# Altium footprint library My Library.PcbLib: 161 footprints (part 5 of 11)
Each footprint in its own frame and in the unit in brackets; x right, y up, seen from the top. Pads: shape width x height; smd on the part's side, far side on the other; paste and mask are expansions set on the pad; w line width, h text height; cw(c..) or ccw(c..) is an arc to the next point about the centre after c.
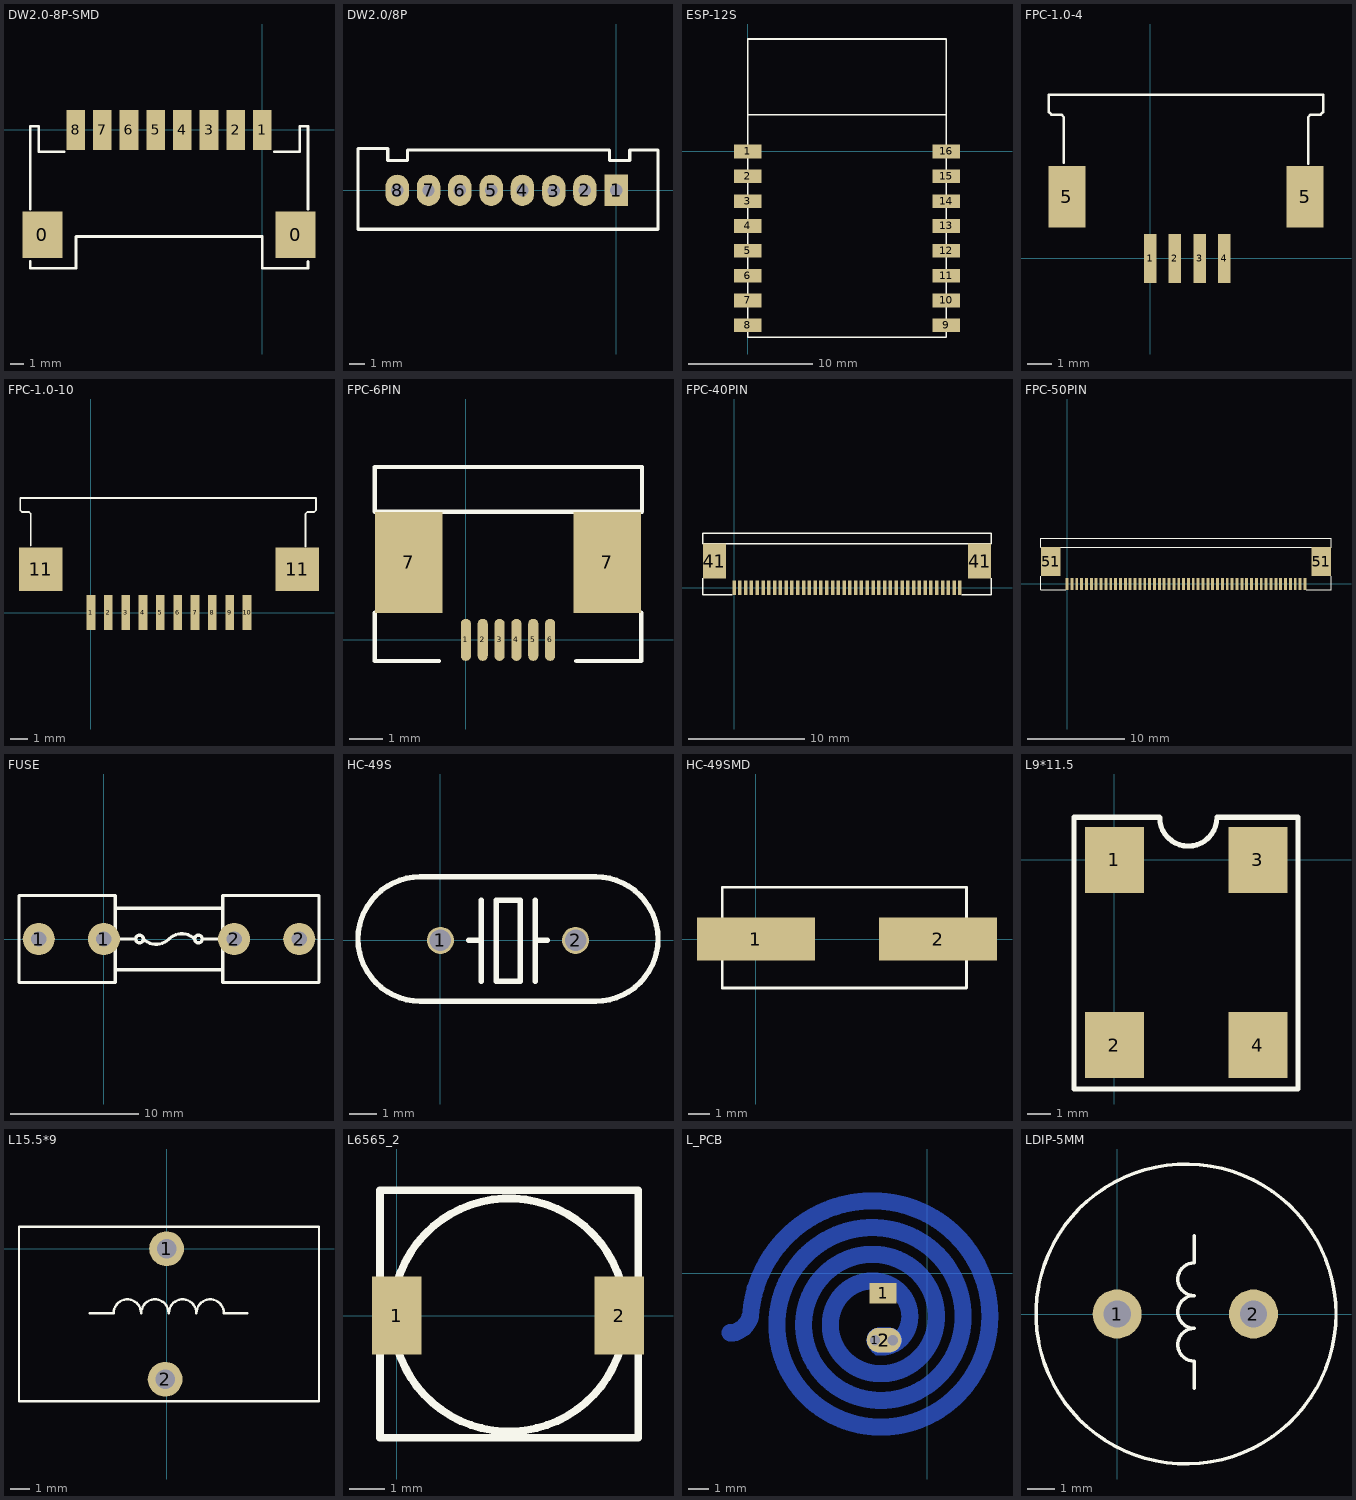
[diagram p4: the footprints below, top view; thin cyan lines are the x and y axes]

## DW2.0-8P-SMD [mm]
height 5
pads (10):
  rect 3x3.5 smd: 0(-16.5,-7.881) 0(2.5,-7.881)
  rect 1.4x3 smd: 1(0,0) 2(-2,0) 3(-4,0) 4(-6,0) 5(-8,0) 6(-10,0) 7(-12,0) 8(-14,0)
Top Overlay:
  lines w0.2: -17.4,-9.881 -17.4,-10.381 -13.971,-10.381 ; -17.399,-5.969 -17.399,-1.651 -17.399,0.254 -16.764,0.254 -16.764,-1.651 -14.859,-1.651 ; -13.97,-10.381 -13.97,-8.001 0,-8.001 0,-10.381 3.429,-10.381 3.429,-9.881 ; 0.889,-1.651 2.794,-1.651 2.794,0.254 3.429,0.254 3.429,-1.651 3.429,-5.969

## DW2.0/8P [mil]
pads (8):
  rect 59x79 hole 31: 1(0,0)
  oval 59x79 hole 31: 2(-79,0) 3(-157,-1) 4(-236.22,0) 5(-314.96,0) 6(-393.7,0) 7(-472.44,0) 8(-551.18,0)
Top Overlay:
  lines w7.87: -650,105 -575,105 -575,75 -525,75 -525,102
  lines w8: -650,-98 -334.22,-98 -257,-98 105,-98 105,102 34,102 34,75 -17,75 -17,102 -139,102 ; -650,-97 -650,105 ; -525,102 -216.35,102 -129.92,102

## ESP-12S [mm]
height 3
pads (16):
  rect 2.2x1.1 smd: 1(0,0) 2(0,-2) 3(0,-4) 4(0,-6) 5(0,-8) 6(0,-10) 7(0,-12) 8(0,-14) 9(16,-14) 10(16,-12) 11(16,-10) 12(16,-8) 13(16,-6) 14(16,-4) 15(16,-2) 16(16,0)
Top Overlay:
  lines w0.127: 0,2.95 16,2.95 ; 3.625,9.05 3.65,9.05 ; 0,-14.95 16,-14.95 16,9.05 0,9.05 0,-14.95

## FPC-1.0-4 [mm]
height 1
pads (6):
  rect 0.5x2 smd: 1(0,0) 2(1,0) 3(2,0) 4(3,0)
  rect 1.5x2.5 smd: 5(-3.375,2.5) 5(6.275,2.5)
Top Overlay:
  lines w0.1: -3.725,6.625 7,6.625 7,5.925 6.9,5.825 6.5,5.825 6.4,5.725 6.4,3.825 ; -3.7,6.625 -4.1,6.625 -4.1,5.925 -4,5.825 -3.6,5.825 -3.5,5.725 -3.5,3.875

## FPC-1.0-10 [mm]
pads (12):
  rect 0.5x2 smd: 1(0,0) 2(1,0) 3(2,0) 4(3,0) 5(4,0) 6(5,0) 7(6,0) 8(7,0) 9(8,0) 10(9,0)
  rect 2.5x2.5 smd: 11(-2.9,2.5) 11(11.9,2.5)
Top Overlay:
  lines w0.1: -3.7,6.6 12.975,6.6 12.975,5.9 12.875,5.8 12.475,5.8 12.375,5.7 12.375,3.8 ; -3.675,6.6 -4.075,6.6 -4.075,5.9 -3.975,5.8 -3.575,5.8 -3.475,5.7 -3.475,3.85

## FPC-6PIN [mm]
height 1
pads (8):
  oval 0.3x1.25 smd: 1(0,0) 2(0.5,0) 3(1,0) 4(1.5,0) 5(2,0) 6(2.5,0)
  rect 2x3 smd: 7(-1.7,2.3) 7(4.2,2.3)
Top Overlay:
  lines w0.127: -2.7,0.8 -2.7,-0.625 -0.8,-0.625 ; 3.275,-0.625 5.2,-0.625 5.2,0.8 ; -2.7,3.8 -2.7,5.125 5.225,5.125 5.225,3.8 -2.7,3.8

## FPC-40PIN [mm]
height 2
pads (42):
  rect 0.3x1.25 smd: 1(0,0) 2(0.5,0) 3(1,0) 4(1.5,0) 5(2,0) 6(2.5,0) 7(3,0) 8(3.5,0) 9(4,0) 10(4.5,0) 11(5,0) 12(5.5,0) 13(6,0) 14(6.5,0) 15(7,0) 16(7.5,0) 17(8,0) 18(8.5,0) 19(9,0) 20(9.5,0) 21(10,0) 22(10.5,0) 23(11,0) 24(11.5,0) 25(12,0) 26(12.5,0) 27(13,0) 28(13.5,0) 29(14,0) 30(14.5,0) 31(15,0) 32(15.5,0) 33(16,0) 34(16.5,0) 35(17,0) 36(17.5,0) 37(18,0) 38(18.5,0) 39(19,0) 40(19.5,0)
  rect 2x3 smd: 41(-1.7,2.3) 41(21.2,2.3)
Top Overlay:
  lines w0.127: -2.7,0.8 -2.7,-0.625 -0.15,-0.625 ; 19.65,-0.625 22.2,-0.625 22.2,0.8 ; -2.7,4.725 22.2,4.725 22.2,3.8 -2.7,3.8 -2.7,4.725 ; -2.7,4.725 -2.7,4.725

## FPC-50PIN [mm]
height 2
pads (52):
  rect 0.3x1.25 smd: 1(0,0) 2(0.5,0) 3(1,0) 4(1.5,0) 5(2,0) 6(2.5,0) 7(3,0) 8(3.5,0) 9(4,0) 10(4.5,0) 11(5,0) 12(5.5,0) 13(6,0) 14(6.5,0) 15(7,0) 16(7.5,0) 17(8,0) 18(8.5,0) 19(9,0) 20(9.5,0) 21(10,0) 22(10.5,0) 23(11,0) 24(11.5,0) 25(12,0) 26(12.5,0) 27(13,0) 28(13.5,0) 29(14,0) 30(14.5,0) 31(15,0) 32(15.5,0) 33(16,0) 34(16.5,0) 35(17,0) 36(17.5,0) 37(18,0) 38(18.5,0) 39(19,0) 40(19.5,0) 41(20,0) 42(20.5,0) 43(21,0) 44(21.5,0) 45(22,0) 46(22.5,0) 47(23,0) 48(23.5,0) 49(24,0) 50(24.5,0)
  rect 2x3 smd: 51(-1.7,2.3) 51(26.2,2.3)
Top Overlay:
  lines w0.127: -2.7,0.8 -2.7,-0.625 -0.15,-0.625 ; 24.65,-0.625 27.2,-0.625 27.2,0.8 ; -2.7,4.725 27.2,4.725 27.2,3.8 -2.7,3.8 -2.7,4.725 ; -2.7,4.725 -2.7,4.725

## FUSE [mm]
height 8
pads (4):
  round 2.5 hole 1.2: 1(-5.08,0) 1(0,0) 2(10.16,0) 2(15.24,0)
Top Overlay:
  circle w0.254: c2.78,0 r0.3
  circle w0.254: c7.38,0 r0.3
  lines w0.254: 0.88,-2.4 9.28,-2.4 ; 0.88,2.4 9.28,2.4 ; 1.28,0 2.48,0 ; 3.08,0 ccw(c4.08,1) 5.08,0 cw(c6.08,-1) 7.08,0 ; 7.68,0 8.88,0 ; -6.62,-3.4 0.88,-3.4 0.88,3.4 -6.62,3.4 -6.62,-3.4 ; 9.28,-3.4 9.28,3.4 16.78,3.4 16.78,-3.4 9.28,-3.4

## HC-49S [mm]
height 5
pads (2):
  round 1 hole 0.8: 1(0,0) 2(5,0)
Top Overlay:
  lines w0.2: 1.05,0 1.5,0 ; 1.508,-1.513 1.508,1.487 ; 3.508,-1.513 3.508,1.487 ; 3.55,0 3.95,0 ; -0.75,-2.25 cw(c-0.75,0.05) -0.75,2.35 5.75,2.35 cw(c5.75,0.05) 5.75,-2.25 -0.75,-2.25 ; 2.058,-1.513 2.058,1.487 2.958,1.487 2.958,-1.513 2.058,-1.513

## HC-49SMD [mm]
height 5
pads (2):
  rect 5.5x2 smd: 1(0,0) 2(8.5,0)
Top Overlay:
  lines w0.127: -1.575,-2.287 9.825,-2.287 9.825,2.413 -1.575,2.413 -1.575,-2.287

## L9*11.5 [mm]
height 5
pads (4):
  rect 2.5x2.8 smd: 1(0,0) 2(0,-7.84) 3(6.08,0) 4(6.08,-7.84)
Top Overlay:
  lines w0.22: -1.7,1.8 -1.7,-9.7 7.769,-9.7 7.769,-9.69 7.775,-9.69 7.775,1.8 ; -1.7,1.805 1.914,1.805 ; 1.924,1.795 ccw(c3.134,1.795) 4.344,1.795 ; 4.354,1.805 7.775,1.805
3D body: height 7.5, standoff 1, extent 0,-7.875 6.15,0

## L15.5*9 [mm]
height 17
pads (2):
  round 1.8 hole 1: 1(0,0) 2(-0.075,-6.75)
Top Overlay:
  lines w0.127: -3.975,-3.325 -2.725,-3.325 ; -2.732,-3.325 cw(c-2.025,-3.325) -1.318,-3.325 ; -1.307,-3.325 cw(c-0.6,-3.325) 0.107,-3.325 ; 0.118,-3.325 cw(c0.825,-3.325) 1.532,-3.325 ; 1.543,-3.325 cw(c2.25,-3.325) 2.957,-3.325 ; 2.975,-3.325 4.175,-3.325 ; -7.625,-7.875 -7.625,1.125 7.875,1.125 7.875,-7.875 -7.625,-7.875

## L6565_2 [mm]
height 2
pads (2):
  rect 1.4x2.2 smd: 1(0,0) 2(6.296,-0.002)
Top Overlay:
  circle w0.22: c3.176,0.018 r3.3
  lines w0.22: -0.474,-3.462 -0.474,3.548 6.836,3.548 6.836,-3.462 -0.474,-3.462
3D body: height 2, standoff 0, extent 0,-3.15 6.375,3.275

## L_PCB [mm]
pads (5):
  round 0.7 hole 0.5: 1(-2.55,-3.25) ""(-1.675,-3.25)
  rect 1.3x1 smd: 1(-2.152,-0.98)
  oval 1.7x1.2 smd: 2(-2.1,-3.25)
  oval 1.7x1.2 smd far side: 2(-2.1,-3.25)
Bottom Layer:
  drawing of 6502 lines, arcs and shapes, not listed
3D body: height 1, standoff 0, extent -2.7,-3.25 -1.6,-1

## LDIP-5MM [mm]
height 1.7
pads (2):
  round 1.8 hole 1: 1(0,0) 2(5,0)
Top Overlay:
  circle w0.127: c2.525,0 r5.5
  lines w0.127: 2.825,-2.725 2.825,-1.725 cw(c2.825,-1.125) 2.825,-0.525 cw(c2.825,0.075) 2.825,0.675 ; 2.825,0.675 cw(c2.825,1.275) 2.825,1.875 2.825,2.875